# Altium footprint library SRR1280-150M.PcbLib: 1 footprints
Each footprint in its own frame and in the unit in brackets; x right, y up, seen from the top. Pads: shape width x height; smd on the part's side, far side on the other; paste and mask are expansions set on the pad; w line width, h text height; cw(c..) or ccw(c..) is an arc to the next point about the centre after c.
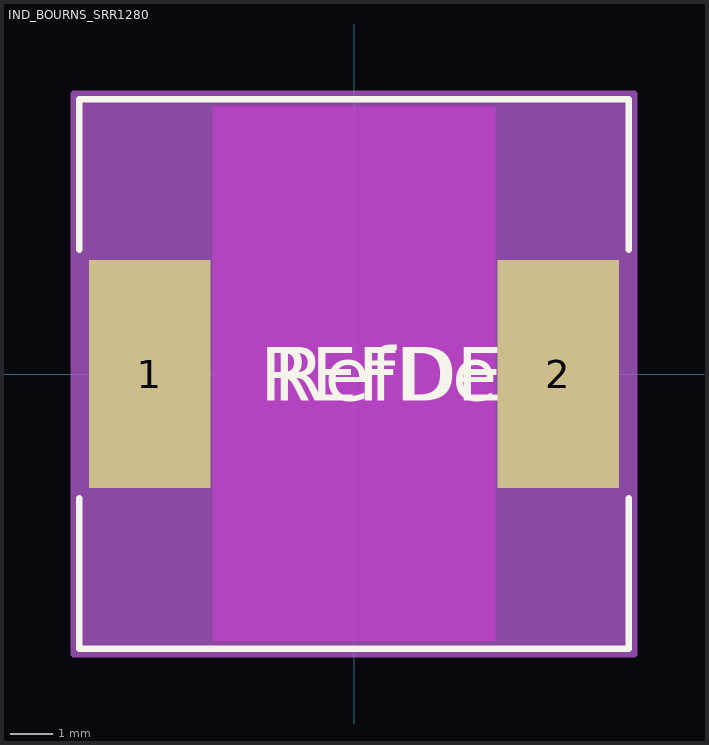
[diagram p0: the footprint, top view; thin cyan lines are the x and y axes]

## IND_BOURNS_SRR1280 [mil]
pads (2):
  rect 114x213 smd paste+0 mask+0: 1(-191,0) 2(191,0)
Top Layer keep-out:
  region: -132,-250 -132,250 132,250 132,-250
Top Overlay:
  lines w6: -257,-116.02 -257,-257 257,-257 257,-116.02 ; -257,116.02 -257,257 257,257 257,116.02
  text "RefDes" at -75,-25 h50
  text "REFDES" at -87.5,-25 h50
Mechanical 13:
  circle w0: c-249,0 r0
  lines w1: -252,-252 252,-252 252,252 -252,252 -252,-252
  text "RefDes2" at -87.5,-25 h50
Mechanical 15:
  region: -262,-116.5 -262,116.5 -262,262 262,262 262,116.5 262,-116.5 262,-262 -262,-262
  lines w6: -262,-116.5 -262,116.5 ; -262,-116.5 -262,-116.5 ; -262,-116.5 -262,-262 262,-262 262,-116.5 ; -262,116.5 -262,116.5 ; -262,116.5 -262,262 262,262 262,116.5 ; 262,-116.5 262,116.5 ; 262,-116.5 262,-116.5 ; 262,116.5 262,116.5
3D body "IND_BOURNS_SRR1280.step": height 315, standoff 0, extent -252.01,-252.09 252.01,252.09